# EAGLE library part HDR2MM-8 (library squirrel)
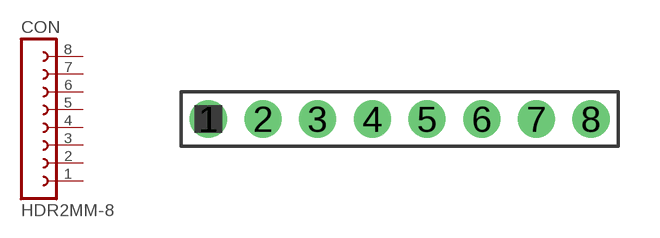
[diagram p18: symbol with the pads of HDR2MM-8; footprint HDR2MM-8]

Designator prefix CON

## HDR2MM-8  [HDR2MM-8]
1  1  pas
2  2  pas
3  3  pas
4  4  pas
5  5  pas
6  6  pas
7  7  pas
8  8  pas

## Footprint HDR2MM-8 (pad centres in mm)
drill 0.85: 1 0,0; 2 2,0; 3 4,0; 4 6,0; 5 8,0; 6 10,0; 7 12,0; 8 14,0